# Altium footprint library 接头.PcbLib: 4 footprints
Each footprint in its own frame and in the unit in brackets; x right, y up, seen from the top. Pads: shape width x height; smd on the part's side, far side on the other; paste and mask are expansions set on the pad; w line width, h text height; cw(c..) or ccw(c..) is an arc to the next point about the centre after c.
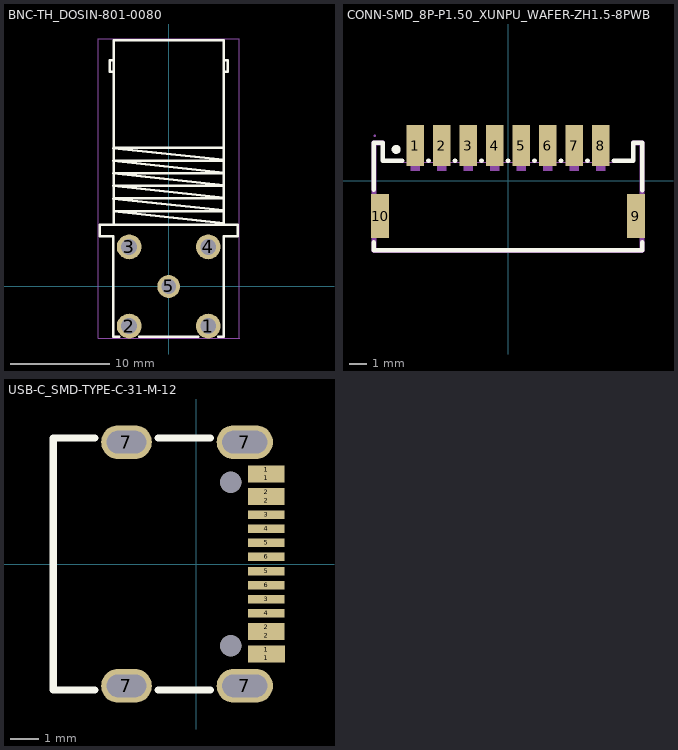
[diagram p0: the footprints below, top view; thin cyan lines are the x and y axes]

## BNC-TH_DOSIN-801-0080 [mm]
pads (5):
  round 2.5 hole 1.6: 1(4,-4) 2(-4,-4) 3(-4,4) 4(4,4)
  round 2.3 hole 1.5: 5(0,0)
Top Overlay:
  lines w0.254: -5.588,8.89 5.564,7.709 ; -5.588,10.16 5.564,8.979 ; -5.588,11.43 5.564,10.249 ; -5.588,12.7 5.564,11.519 ; -5.588,13.97 5.564,12.789 ; -5.564,6.223 -5.564,24.892 5.588,24.892 5.588,6.223 ; -5.564,7.586 5.588,6.405 ; -5.564,21.717 -5.969,21.717 -5.969,22.846 -5.564,22.846 ; -5.524,8.924 5.476,8.924 ; -5.524,10.194 5.476,10.194 ; -5.524,11.464 5.476,11.464 ; -5.524,12.734 5.476,12.734 ; -5.524,14.004 5.476,14.004 ; -5.5,7.62 5.5,7.62 ; -5.012,-5.08 -5.588,-5.08 -5.588,4.953 -5.588,5.08 -6.012,5.08 -6.985,5.08 -6.985,6.223 6.985,6.223 6.985,5.08 6.012,5.08 5.588,5.08 5.588,-5.08 5.012,-5.08 ; -2.988,-5.08 2.988,-5.08 ; 5.588,21.717 5.969,21.717 5.969,22.88 5.588,22.88
Mechanical 15:
  drawing of 10 lines, arcs and shapes, not listed

## CONN-SMD_8P-P1.50_XUNPU_WAFER-ZH1.5-8PWB [mm]
pads (10):
  rect 1x2.3 smd paste+0 mask+0.05: 1(-5.25,2) 2(-3.75,2) 3(-2.25,2) 4(-0.75,2) 5(0.75,2) 6(2.25,2) 7(3.75,2) 8(5.25,2)
  rect 1x2.5 smd paste+0 mask+0.05: 9(7.25,-2) 10(-7.25,-2)
Top Overlay:
  circle w0.254: c-6.338,1.778 r0.127
  lines w0.254: -7.608,-3.481 -7.608,-3.937 7.608,-3.937 7.608,-3.481 ; -7.608,-0.519 -7.608,2.159 -7.1,2.159 -7.1,1.143 -6.846,1.143 -6.072,1.143 -5.981,1.143 ; -4.519,1.143 -4.481,1.143 ; -3.019,1.143 -2.981,1.143 ; -1.519,1.143 -1.481,1.143 ; -0.019,1.143 0.019,1.143 ; 1.481,1.143 1.519,1.143 ; 2.981,1.143 3.019,1.143 ; 4.481,1.143 4.519,1.143 ; 5.981,1.143 6.073,1.143 7.1,1.143 ; 7.608,-0.53 7.608,-0.519 ; 7.1,1.143 7.1,2.159 ; 7.1,1.143 7.1,2.159 ; 7.1,2.159 7.608,2.159 ; 7.1,2.159 7.608,2.159 ; 7.608,-0.519 7.608,2.159 ; 7.608,-0.519 7.608,2.159
Mechanical 6:
  region: -7.1,2.023 -7.473,2.023 -7.473,-3.823 7.473,-3.823 7.473,2.023 7.1,2.023 7.047,2.023 6.973,2.097 6.973,2.203 7.047,2.277 7.1,2.277 7.6,2.277 7.625,2.277 7.672,2.258 7.708,2.222 7.727,2.175 7.727,2.15 7.727,-3.95 7.727,-3.975 7.708,-4.022 7.672,-4.058 7.625,-4.077 7.6,-4.077 -7.6,-4.077 -7.625,-4.077 -7.672,-4.058 -7.708,-4.022 -7.727,-3.975 -7.727,-3.95 -7.727,2.15 -7.727,2.175 -7.708,2.222 -7.672,2.258 -7.625,2.277 -7.6,2.277 -7.1,2.277 -7.047,2.277 -6.973,2.203 -6.973,2.097 -7.047,2.023 -7.1,2.023
Mechanical 15:
  region: -7.55,-1.25 -6.95,-1.25 -6.95,-2.75 -7.55,-2.75
  region: 6.95,-1.25 7.55,-1.25 7.55,-2.75 6.95,-2.75
  region: -5.5,2.563 -5,2.563 -5,0.563 -5.5,0.563
  region: -4,2.563 -3.5,2.563 -3.5,0.563 -4,0.563
  region: -2.5,2.563 -2,2.563 -2,0.563 -2.5,0.563
  region: -1,2.563 -0.5,2.563 -0.5,0.563 -1,0.563
  region: 0.5,2.563 1,2.563 1,0.563 0.5,0.563
  region: 2,2.563 2.5,2.563 2.5,0.563 2,0.563
  region: 3.5,2.563 4,2.563 4,0.563 3.5,0.563
  region: 5,2.563 5.5,2.563 5.5,0.563 5,0.563
  region: -7.49,2.563 -7.49,2.588 -7.525,2.623 -7.575,2.623 -7.61,2.588 -7.61,2.563 -7.61,2.538 -7.575,2.503 -7.525,2.503 -7.49,2.538 -7.49,2.563
  lines w0.051: -7.5,-3.937 7.5,-3.937 7.5,2.063 7,2.063 7,1.063 -7,1.063 -7,2.063 -7.5,2.063 -7.5,-3.937

## PCBComponent_1 [mm]

## USB-C_SMD-TYPE-C-31-M-12 [mm]
pads (22):
  rect 1.3x0.3 smd: 1(2.484,3.35) 1(2.484,3.05) 1(2.484,-3.05) 1(2.484,-3.35) 2(2.484,2.55) 2(2.484,-2.25) 2(2.484,-2.55) 2(2.484,2.25) 3(2.484,-1.25) 3(2.484,1.75) 4(2.484,-1.75) 4(2.484,1.25) 5(2.484,-0.25) 5(2.484,0.75) 6(2.484,-0.75) 6(2.484,0.25)
  oval 1.8x1.2 hole 0.8 slot 1.4 at 0 deg: 7(-2.484,-4.325) 7(-2.484,4.325)
  oval 2x1.2 hole 0.8 slot 1.6 at 0 deg: 7(1.716,-4.325) 7(1.716,4.325)
  round 0.75 hole 0.75 unplated: ""(1.216,-2.9) ""(1.216,2.9)
Top Overlay:
  lines w0.254: -3.602,-4.471 -5.084,-4.471 -5.084,4.469 -3.603,4.469 ; -1.366,-4.471 0.498,-4.471 ; -1.366,4.469 0.497,4.469
Top Paste:
  drawing of 16 lines, arcs and shapes, not listed
Mechanical 15:
  circle w0.25: c1.216,-2.9 r0.125
  circle w0.25: c1.216,2.9 r0.125